# EAGLE library part LTC6804IG-2#PBF (library LTC6804IG-2#PBF)
IC, BATTERY MONITOR, SSOP-48, 5.3MM Source: Datasheet <https://www.analog.com/media/en/dsp-documentation/evaluation-kit-manuals/dc1942bf.pdf>
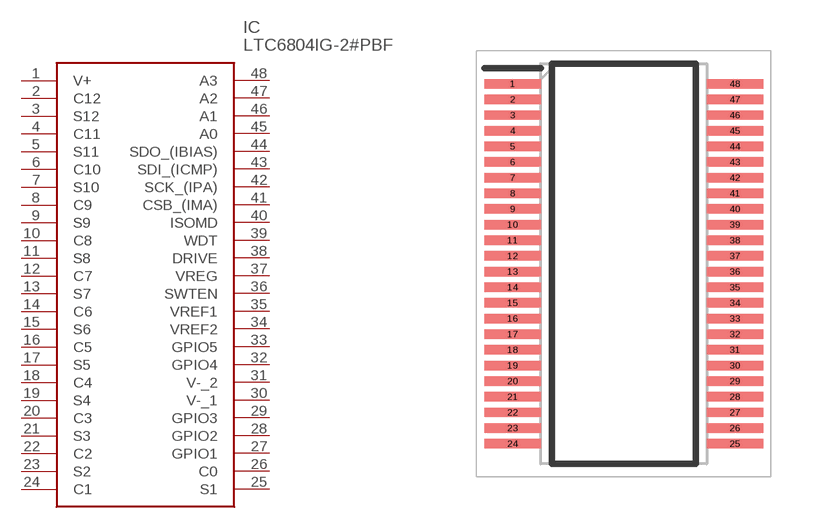
[diagram p0: symbol with the pads of SOP50P780X200-48N; footprint SOP50P780X200-48N]

Designator prefix IC

## LTC6804IG-2#PBF (Description: IC, BATTERY MONITOR, SSOP-48, 5.3MM; Height: 2mm; Manufacturer_Name: Analog Devices; Manufacturer_Part_Number: LTC6804IG-2#PBF; Mouser_Part_Number: 584-LTC6804IG-2#PBF; Mouser_Price-Stock: https://www.mouser.co.uk/ProductDetail/Analog-Devices/LTC6804IG-2PBF?qs=hVkxg5c3xu9J5aXeRrCrGw%3D%3D)  [SOP50P780X200-48N]
1  V+
2  C12
3  S12
4  C11
5  S11
6  C10
7  S10
8  C9
9  S9
10  C8
11  S8
12  C7
13  S7
14  C6
15  S6
16  C5
17  S5
18  C4
19  S4
20  C3
21  S3
22  C2
23  S2
24  C1
25  S1
26  C0
27  GPIO1
28  GPIO2
29  GPIO3
30  V-_1
31  V-_2
32  GPIO4
33  GPIO5
34  VREF2
35  VREF1
36  SWTEN
37  VREG
38  DRIVE
39  WDT
40  ISOMD
41  CSB_(IMA)
42  SCK_(IPA)
43  SDI_(ICMP)
44  SDO_(IBIAS)
45  A0
46  A1
47  A2
48  A3

## Footprint SOP50P780X200-48N (pad centres in mm)
48 SSOP
smd 1.8 x 0.3: 1 -3.55,5.75; 2 -3.55,5.25; 3 -3.55,4.75; 4 -3.55,4.25; 5 -3.55,3.75; 6 -3.55,3.25; 7 -3.55,2.75; 8 -3.55,2.25; 9 -3.55,1.75; 10 -3.55,1.25; 11 -3.55,0.75; 12 -3.55,0.25; 13 -3.55,-0.25; 14 -3.55,-0.75; 15 -3.55,-1.25; 16 -3.55,-1.75; 17 -3.55,-2.25; 18 -3.55,-2.75; 19 -3.55,-3.25; 20 -3.55,-3.75; 21 -3.55,-4.25; 22 -3.55,-4.75; 23 -3.55,-5.25; 24 -3.55,-5.75; 25 3.55,-5.75; 26 3.55,-5.25; 27 3.55,-4.75; 28 3.55,-4.25; 29 3.55,-3.75; 30 3.55,-3.25; 31 3.55,-2.75; 32 3.55,-2.25; 33 3.55,-1.75; 34 3.55,-1.25; 35 3.55,-0.75; 36 3.55,-0.25; 37 3.55,0.25; 38 3.55,0.75; 39 3.55,1.25; 40 3.55,1.75; 41 3.55,2.25; 42 3.55,2.75; 43 3.55,3.25; 44 3.55,3.75; 45 3.55,4.25; 46 3.55,4.75; 47 3.55,5.25; 48 3.55,5.75